# EAGLE library part MULTIMEC (library DodoLcd)
MULTIPLE BUTTON
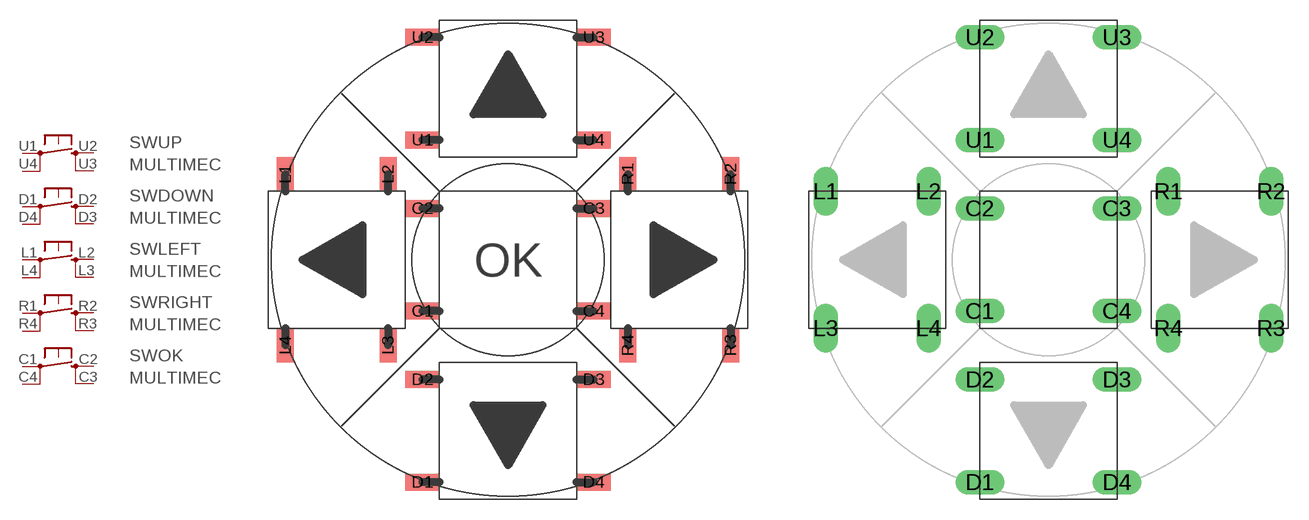
[diagram p10: symbol with the pads of MULTIMEC_SMD; footprints MULTIMEC_SMD, MULTIMEC_THD]

Designator prefix SW; gates UP=MULTIMEC DOWN=MULTIMEC LEFT=MULTIMEC RIGHT=MULTIMEC OK=MULTIMEC

## MULTIMEC  [MULTIMEC_SMD]
C1  OK:1  pas
C2  OK:4  pas
C3  OK:3  pas
C4  OK:2  pas
D1  DOWN:1  pas
D2  DOWN:4  pas
D3  DOWN:3  pas
D4  DOWN:2  pas
L1  LEFT:1  pas
L2  LEFT:4  pas
L3  LEFT:3  pas
L4  LEFT:2  pas
R1  RIGHT:1  pas
R2  RIGHT:4  pas
R3  RIGHT:3  pas
R4  RIGHT:2  pas
U1  UP:1  pas
U2  UP:4  pas
U3  UP:3  pas
U4  UP:2  pas

## MULTIMECT  [MULTIMEC_THD]
C1  OK:1  pas
C2  OK:4  pas
C3  OK:3  pas
C4  OK:2  pas
D1  DOWN:1  pas
D2  DOWN:4  pas
D3  DOWN:3  pas
D4  DOWN:2  pas
L1  LEFT:3  pas
L2  LEFT:2  pas
L3  LEFT:4  pas
L4  LEFT:1  pas
R1  RIGHT:1  pas
R2  RIGHT:4  pas
R3  RIGHT:3  pas
R4  RIGHT:2  pas
U1  UP:1  pas
U2  UP:4  pas
U3  UP:3  pas
U4  UP:2  pas

## Footprint MULTIMEC_SMD (pad centres in mm)
Navimec multiple button www.mec.dk
smd 2.54 x 1.27: C1 -6.35,-3.81; C2 -6.35,3.81; C3 6.35,3.81; C4 6.35,-3.81; D1 -6.35,-16.51; D2 -6.35,-8.89; D3 6.35,-8.89; D4 6.35,-16.51; U1 -6.35,8.89; U2 -6.35,16.51; U3 6.35,16.51; U4 6.35,8.89
smd 1.27 x 2.54: L1 -16.51,6.35; L2 -8.89,6.35; L3 -8.89,-6.35; L4 -16.51,-6.35; R1 8.89,6.35; R2 16.51,6.35; R3 16.51,-6.35; R4 8.89,-6.35

## Footprint MULTIMEC_THD (pad centres in mm)
MULTIMEC THD www.mec.dk
drill 1.2 long: C1 -5.08,-3.81; C2 -5.08,3.81; C3 5.08,3.81; C4 5.08,-3.81; D1 -5.08,-16.51; D2 -5.08,-8.89; D3 5.08,-8.89; D4 5.08,-16.51; L1 -16.51,5.08; L2 -8.89,5.08; L3 -16.51,-5.08; L4 -8.89,-5.08; R1 8.89,5.08; R2 16.51,5.08; R3 16.51,-5.08; R4 8.89,-5.08; U1 -5.08,8.89; U2 -5.08,16.51; U3 5.08,16.51; U4 5.08,8.89